# Altium footprint library MLACH0_9.PCBLIB: 97 footprints (part 6 of 7)
Each footprint in its own frame and in the unit in brackets; x right, y up, seen from the top. Pads: shape width x height; smd on the part's side, far side on the other; paste and mask are expansions set on the pad; w line width, h text height; cw(c..) or ccw(c..) is an arc to the next point about the centre after c.
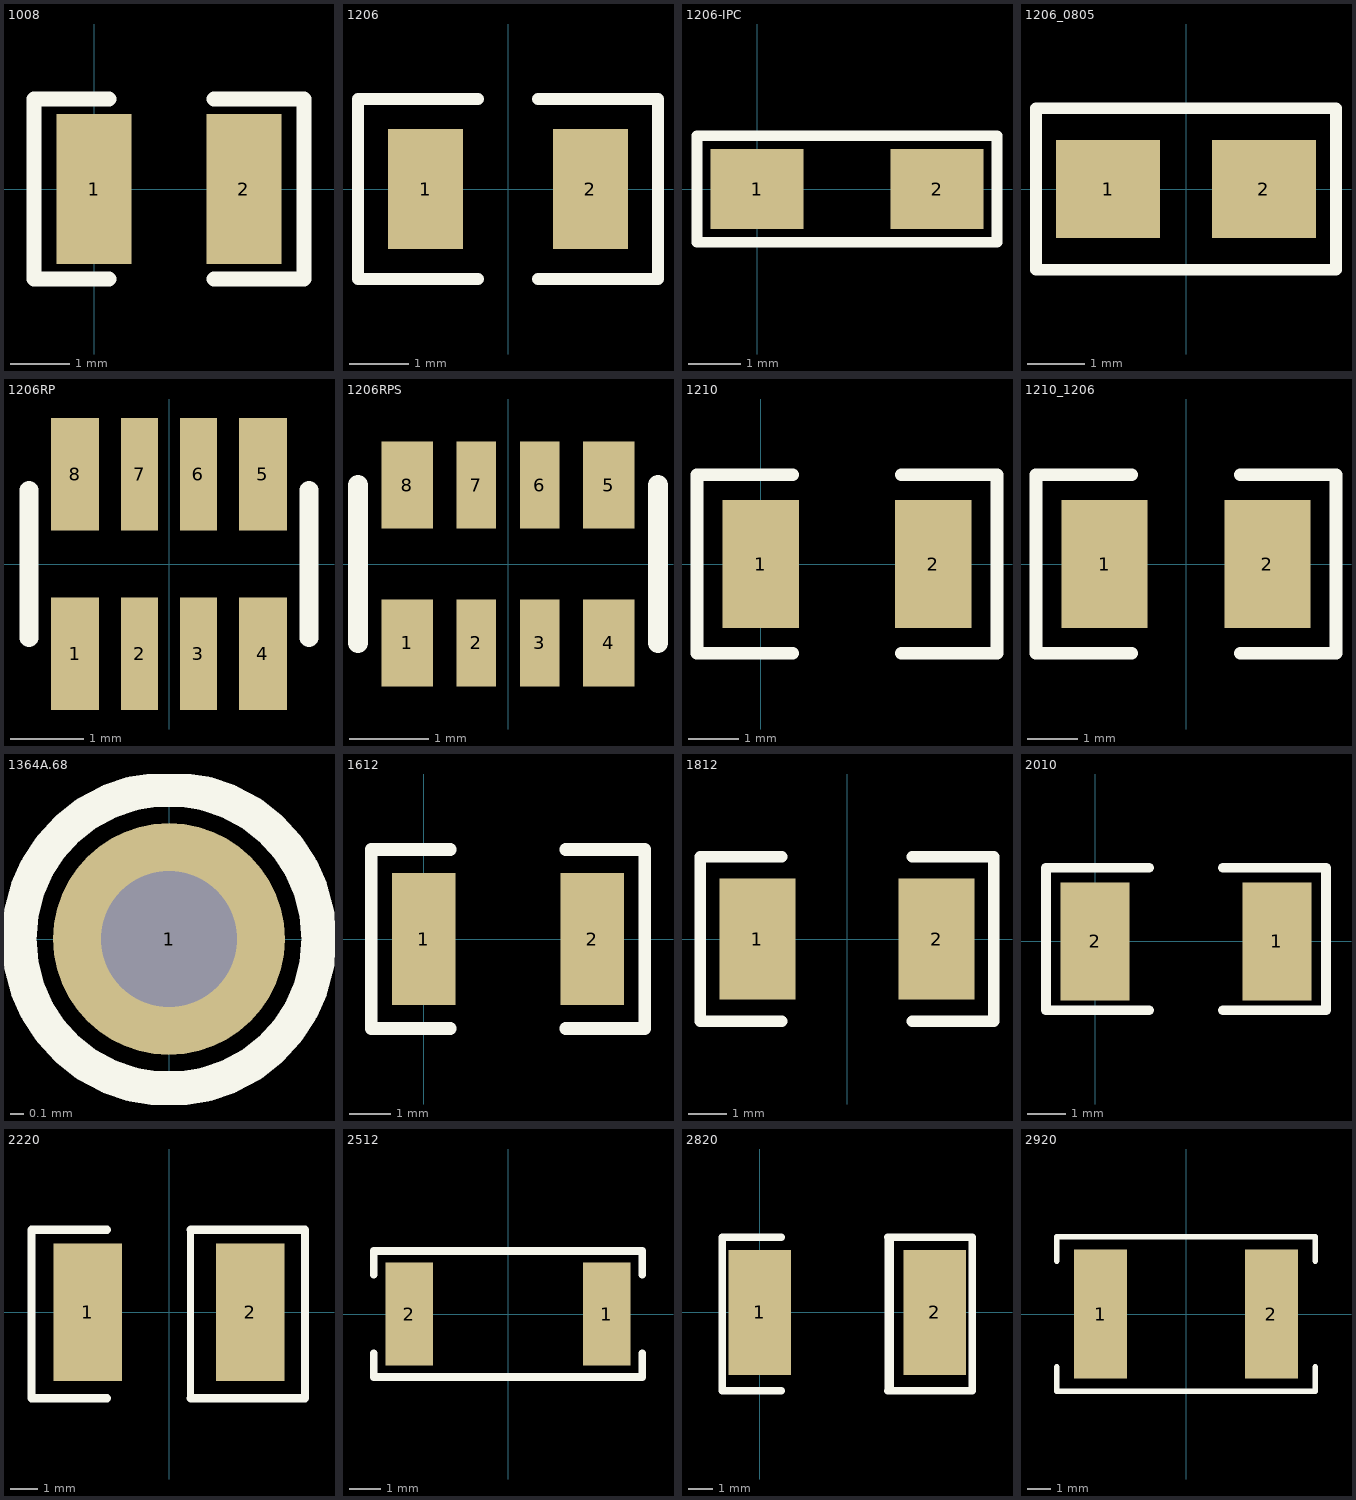
[diagram p5: the footprints below, top view; thin cyan lines are the x and y axes]

## 1008 [mil]
pads (2):
  rect 50x100 smd: 1(0,0) 2(100,0)
TopOverlay:
  lines w10: 10,-60 -40,-60 -40,60 10,60 ; 80,-60 140,-60 140,60 80,60

## 1206 [mil]
pads (2):
  rect 50x80 smd: 1(-55,0) 2(55,0)
TopOverlay:
  lines w8: -20,-60 -100,-60 -100,60 -20,60 ; 20,-60 100,-60 100,60 20,60
3D body: height 21.65, standoff 0, extent -55.12,-39.37 -43.43,39.37
3D body: height 21.65, standoff 0, extent 43.43,-39.37 55.12,39.37
3D body: height 21.65, standoff 0, extent -43.43,-39.37 43.43,39.37

## 1206-IPC [mil]
pads (2):
  rect 70x60 smd: 1(0,0) 2(135,0)
TopOverlay:
  lines w8: -45,-40 -45,40 180,40 180,-40 -45,-40
3D body: height 21.65, standoff 0, extent 11.81,-31.5 23.5,31.5
3D body: height 21.65, standoff 0, extent 110.35,-31.5 122.05,31.5
3D body: height 21.65, standoff 0, extent 23.5,-31.5 110.35,31.5

## 1206_0805 [mm]
pads (2):
  rect 1.8x1.7 smd: 1(-1.35,0) 2(1.35,0)
TopOverlay:
  lines w0.2: -2.6,-1.4 -2.6,0 -2.6,1.4 2.6,1.4 2.6,0 2.6,-1.4 -2.6,-1.4
3D body: height 2.54, standoff 0.1, extent -1.675,-0.875 1.675,0.875
3D body: height 2.56, standoff 0.1, extent 1.254,-0.889 1.702,0.889
3D body: height 2.56, standoff 0.1, extent -1.702,-0.889 -1.254,0.889

## 1206RP [mil]
pads (8):
  rect 25.59x60 smd: 1(-50.2,-48) 4(50.2,-48) 5(50.2,48) 8(-50.2,48)
  rect 19.68x60 smd: 2(-15.75,-48) 3(15.75,-48) 6(15.75,48) 7(-15.75,48)
TopOverlay:
  lines w10: -74.8,-39.37 -74.8,39.37 ; 74.8,-39.37 74.8,39.37
3D body: height 21.65, standoff 0, extent -62.99,-25.59 62.99,25.59
3D body: height 19.68, standoff 0, extent -62.99,23.62 -37.4,31.5
3D body: height 19.68, standoff 0, extent -25.59,23.62 -5.91,31.5
3D body: height 19.68, standoff 0, extent 5.91,23.62 25.59,31.5
3D body: height 19.68, standoff 0, extent 37.4,23.62 62.99,31.5
3D body: height 19.68, standoff 0, extent -25.59,-31.5 -5.91,-23.62
3D body: height 19.68, standoff 0, extent -62.99,-31.5 -37.4,-23.62
3D body: height 19.68, standoff 0, extent 5.91,-31.5 25.59,-23.62
3D body: height 19.68, standoff 0, extent 37.4,-31.5 62.99,-23.62

## 1206RPS [mm]
pads (8):
  rect 0.65x1.1 smd: 1(-1.275,-1) 4(1.275,-1) 5(1.275,1) 8(-1.275,1)
  rect 0.5x1.1 smd: 2(-0.4,-1) 3(0.4,-1) 6(0.4,1) 7(-0.4,1)
TopOverlay:
  lines w0.254: -1.9,-1 -1.9,1 ; 1.9,-1 1.9,1
3D body: height 0.5, standoff 0, extent 0.95,-0.8 1.6,-0.6
3D body: height 0.5, standoff 0, extent 0.15,-0.8 0.65,-0.6
3D body: height 0.5, standoff 0, extent -1.6,-0.8 -0.95,-0.6
3D body: height 0.5, standoff 0, extent -0.65,-0.8 -0.15,-0.6
3D body: height 0.5, standoff 0, extent 0.95,0.6 1.6,0.8
3D body: height 0.5, standoff 0, extent 0.15,0.6 0.65,0.8
3D body: height 0.5, standoff 0, extent -0.65,0.6 -0.15,0.8
3D body: height 0.5, standoff 0, extent -1.6,0.6 -0.95,0.8
3D body: height 0.55, standoff 0, extent -1.6,-0.65 1.6,0.65

## 1210 [mil]
pads (2):
  rect 60x100 smd: 1(0,0) 2(135,0)
TopOverlay:
  lines w10: 25,-70 -50,-70 -50,70 25,70 ; 110,-70 185,-70 185,70 110,70
3D body: height 70.87, standoff 3.94, extent 6.48,-47.24 128.52,47.24
3D body: height 74.8, standoff 0, extent 110.81,-49.21 130.49,49.21
3D body: height 74.8, standoff 0, extent 4.51,-49.21 24.19,49.21

## 1210_1206 [mil]
pads (2):
  rect 67.48x100 smd: 1(-63.76,0) 2(63.76,0)
TopOverlay:
  lines w10: -42.5,-70 -117.5,-70 -117.5,70 -42.5,70 ; 42.5,-70 117.5,-70 117.5,70 42.5,70
3D body: height 74.8, standoff 0, extent -62.99,-49.21 -43.31,49.21
3D body: height 74.8, standoff 0, extent 43.31,-49.21 62.99,49.21
3D body: height 70.87, standoff 3.94, extent -61.02,-47.24 61.02,47.24

## 1364A.68 [mm]
pads (1):
  round 1.7 hole 1: 1(0,0)
TopOverlay:
  circle w0.254: c0,0 r1.1
3D body: height 0.4, standoff -2.4, extent -0.5,-0.5 0.5,0.5
3D body: height 0.5, standoff 0, extent -0.9,-0.9 0.893,0.896
3D body: height 7.1, standoff 0, extent -0.5,-0.5 0.496,0.498

## 1612 [mil]
pads (2):
  rect 60x125 smd: 1(0,0) 2(160,0)
TopOverlay:
  lines w12: 25,-85 -50,-85 -50,85 25,85 ; 135,-85 210,-85 210,85 135,85

## 1812 [mil]
pads (2):
  rect 78.74x125 smd: 1(-92.5,0) 2(92.5,0)
TopOverlay:
  lines w12: -67.5,-85 -151.56,-85 -151.56,85 -67.5,85 ; 67.5,-85 151.56,-85 151.56,85 67.5,85
3D body: height 118.11, standoff 0, extent -90.55,-62.99 -55.12,62.99
3D body: height 118.11, standoff 0, extent 55.12,-62.99 90.55,62.99
3D body: height 118.11, standoff 0, extent -55.12,-62.99 55.12,62.99

## 2010 [mil]
pads (2):
  rect 70x120 smd: 1(185,0) 2(0,0)
TopOverlay:
  lines w10: 55,-70 -50,-70 -50,75 55,75 ; 130,-70 235,-70 235,75 130,75

## 2220 [mm]
pads (2):
  rect 2.54x5.08 smd: 1(-3,0) 2(3,0)
TopOverlay:
  lines w0.254: 0.8,-3.175 0.8,3.048
  lines w0.305: -2.286,-3.175 -5.075,-3.175 -5.075,3.048 -2.286,3.048 ; 0.8,-3.175 5.025,-3.175 5.025,3.048 0.8,3.048
3D body: height 4.2, standoff 0, extent -2.8,-2.5 -2.2,2.5
3D body: height 4.2, standoff 0, extent 2.2,-2.5 2.8,2.5
3D body: height 4.1, standoff 0.1, extent -2.5,-2.4 2.5,2.4

## 2512 [mil]
pads (2):
  rect 60x130 smd: 1(125,0) 2(-125,0)
TopOverlay:
  lines w10: -170,-50 -170,-80 170,-80 170,-50 ; -170,50 -170,80 170,80 170,50
3D body: height 25.59, standoff 0, extent -127.95,-62.99 -106.3,62.99
3D body: height 25.59, standoff 0, extent 106.3,-62.99 127.95,62.99
3D body: height 23.62, standoff 1.97, extent -125.98,-61.02 125.98,61.02

## 2820 [mil]
pads (2):
  rect 100x200 smd: 1(0,0) 2(280,0)
TopOverlay:
  lines w10: 205,-125 205,120 ; 210,-125 210,120
  lines w12: 35,-125 -60,-125 -60,120 35,120 ; 205,-125 340,-125 340,120 205,120

## 2920 [mm]
pads (2):
  rect 2.3x5.6 smd: 1(-3.7,0) 2(3.7,0)
TopOverlay:
  lines w0.254: -5.6,-2.3 -5.6,-3.35 5.6,-3.35 5.6,-2.3 ; -5.6,2.3 -5.6,3.35 5.6,3.35 5.6,2.3